# EAGLE library part DB62130AEFJ (library DB62130AEFJ)
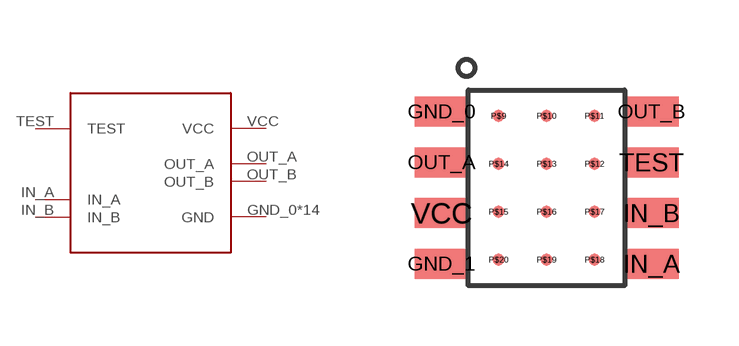
[diagram p0: symbol with the pads of HTSOP-J8; footprint HTSOP-J8]

Designator prefix -

## DB62130AEFJ  [HTSOP-J8]
GND_0  GND
GND_1  GND
IN_A  IN_A
IN_B  IN_B
OUT_A  OUT_A
OUT_B  OUT_B
P$9  GND
P$10  GND
P$11  GND
P$12  GND
P$13  GND
P$14  GND
P$15  GND
P$16  GND
P$17  GND
P$18  GND
P$19  GND
P$20  GND
TEST  TEST
VCC  VCC

## Footprint HTSOP-J8 (pad centres in mm)
smd 1.35 x 0.75: GND_0 -2.625,1.905; GND_1 -2.625,-1.905; IN_A 2.625,-1.905; IN_B 2.625,-0.635; OUT_A -2.625,0.635; OUT_B 2.625,1.905; TEST 2.625,0.635; VCC -2.625,-0.635
smd 0.3 x 0.3: P$9 -1.2,1.8; P$10 0,1.8; P$11 1.2,1.8; P$12 1.2,0.6; P$13 0,0.6; P$14 -1.2,0.6; P$15 -1.2,-0.6; P$16 0,-0.6; P$17 1.2,-0.6; P$18 1.2,-1.8; P$19 0,-1.8; P$20 -1.2,-1.8